# EAGLE library part HX4002-CE021-+-MAX40200_CE021 (library KEW_HF_V16)
CE021 Hexin 3.3v Boost/Buck, SOT23-6 Datasheet <http://www.jiecx.com/files856985665897965/productpdf/2013-7-5/545010255.pdf>
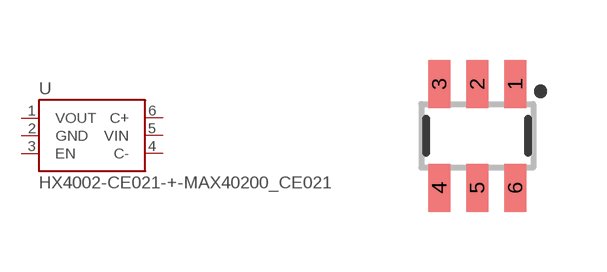
[diagram p0: symbol with the pads of HX4002-CE021-+-MAX40200_SOT23-6; footprint HX4002-CE021-+-MAX40200_SOT23-6]

Designator prefix U

## HX4002-CE021-+-MAX40200_CE021SOT-23 (VALUE: HX4002)  [HX4002-CE021-+-MAX40200_SOT23-6]
1  VOUT
2  GND
3  EN
4  C-
5  VIN
6  C+

## Footprint HX4002-CE021-+-MAX40200_SOT23-6 (pad centres in mm)
SOT23-6 Specifications: Pin count: 6
smd 0.55 x 1.2: 1 0.95,1.3; 2 0,1.3; 3 -0.95,1.3; 4 -0.95,-1.3; 5 0,-1.3; 6 0.95,-1.3